# EAGLE library part WE-DSL_750050772_750051256 (library Wuerth_Elektronik_eiSos_ v6.0)
SMD-HDSL Transformer WE-DSL - IEC60950 compatible -- for HDSL applications -- Matched to various manufacturers HDSL ICs
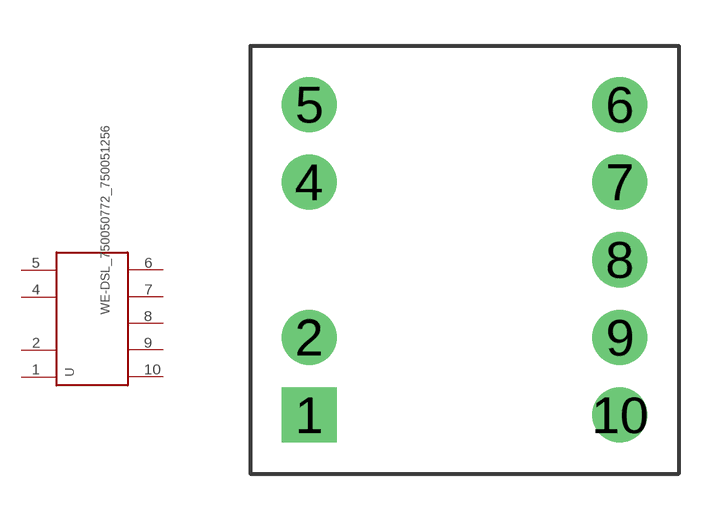
[diagram p50: symbol with the pads of WE_EP13_THT_9PIN; footprint WE_EP13_THT_9PIN]

Designator prefix -

## WE-DSL_750050772_750051256_WE-DSL_750050772_750051256  [WE_EP13_THT_9PIN]
1  1
2  2
4  4
5  5
6  6
7  7
8  8
9  9
10  10

## Footprint WE_EP13_THT_9PIN (pad centres in mm)
SMD-xDSL Transformer WE-DSL
drill 1.2 square: 1 -5.08,-5.08
drill 1.2 round: 2 -5.08,-2.54; 4 -5.08,2.54; 5 -5.08,5.08; 6 5.08,5.08; 7 5.08,2.54; 8 5.08,0; 9 5.08,-2.54; 10 5.08,-5.08